# Altium footprint library levitador_original.PcbLib: 19 footprints (part 2 of 2)
Each footprint in its own frame and in the unit in brackets; x right, y up, seen from the top. Pads: shape width x height; smd on the part's side, far side on the other; paste and mask are expansions set on the pad; w line width, h text height; cw(c..) or ccw(c..) is an arc to the next point about the centre after c.
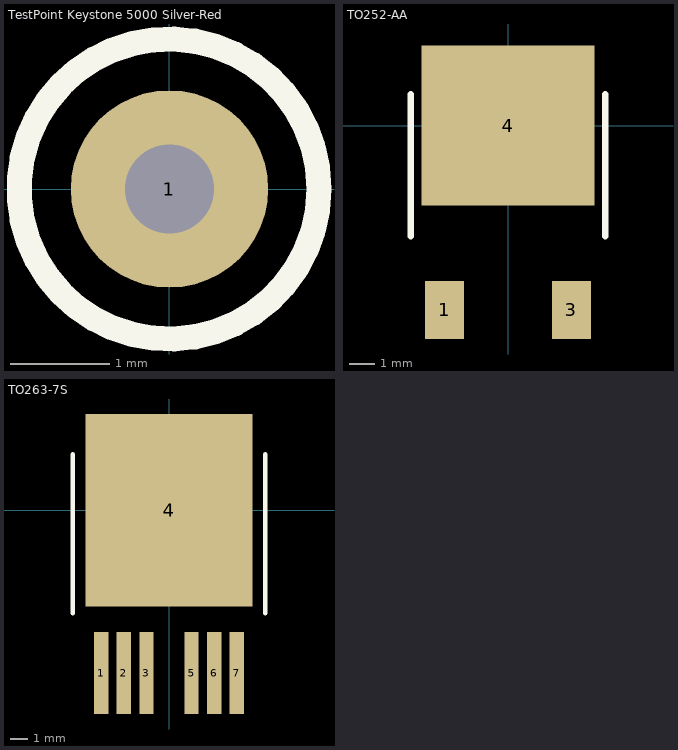
[diagram p1: the footprints below, top view; thin cyan lines are the x and y axes]

## TestPoint Keystone 5000 Silver-Red [mm] "Thru hole test point"
height 5
pads (1):
  round 2 hole 0.9: 1(0,0)
Top Overlay:
  circle w0.254: c-0.005,0 r1.519
3D body: height 4.89, standoff -3.07, extent -1.27,-1.27 1.27,1.27

## TO252-AA [mil]
pads (3):
  rect 60x89 smd: 1(-97,-282) 3(97,-282)
  rect 265x245 smd: 4(0,0)
Top Overlay:
  lines w10: -149,-169 -149,48 ; 149,-169 149,48
3D body: height 156.3, standoff 61.81, extent -132.56,-291.08 132.56,106.56

## TO263-7S [mm]
pads (7):
  rect 0.8x4.6 smd: 1(-3.81,-9.15) 2(-2.54,-9.15) 3(-1.27,-9.15) 5(1.27,-9.15) 6(2.54,-9.15) 7(3.81,-9.15)
  rect 9.4x10.8 smd: 4(0,0)
Top Overlay:
  lines w0.254: -5.41,-5.791 -5.41,3.15 ; 5.41,-5.791 5.41,3.15
3D body: height 4.78, standoff -0.02, extent -5.025,-10.971 4.975,4.699